# Altium footprint library Connector_FFC-FPC.PcbLib: 372 footprints (part 6 of 24)
Each footprint in its own frame and in the unit in brackets; x right, y up, seen from the top. Pads: shape width x height; smd on the part's side, far side on the other; paste and mask are expansions set on the pad; w line width, h text height; cw(c..) or ccw(c..) is an arc to the next point about the centre after c.
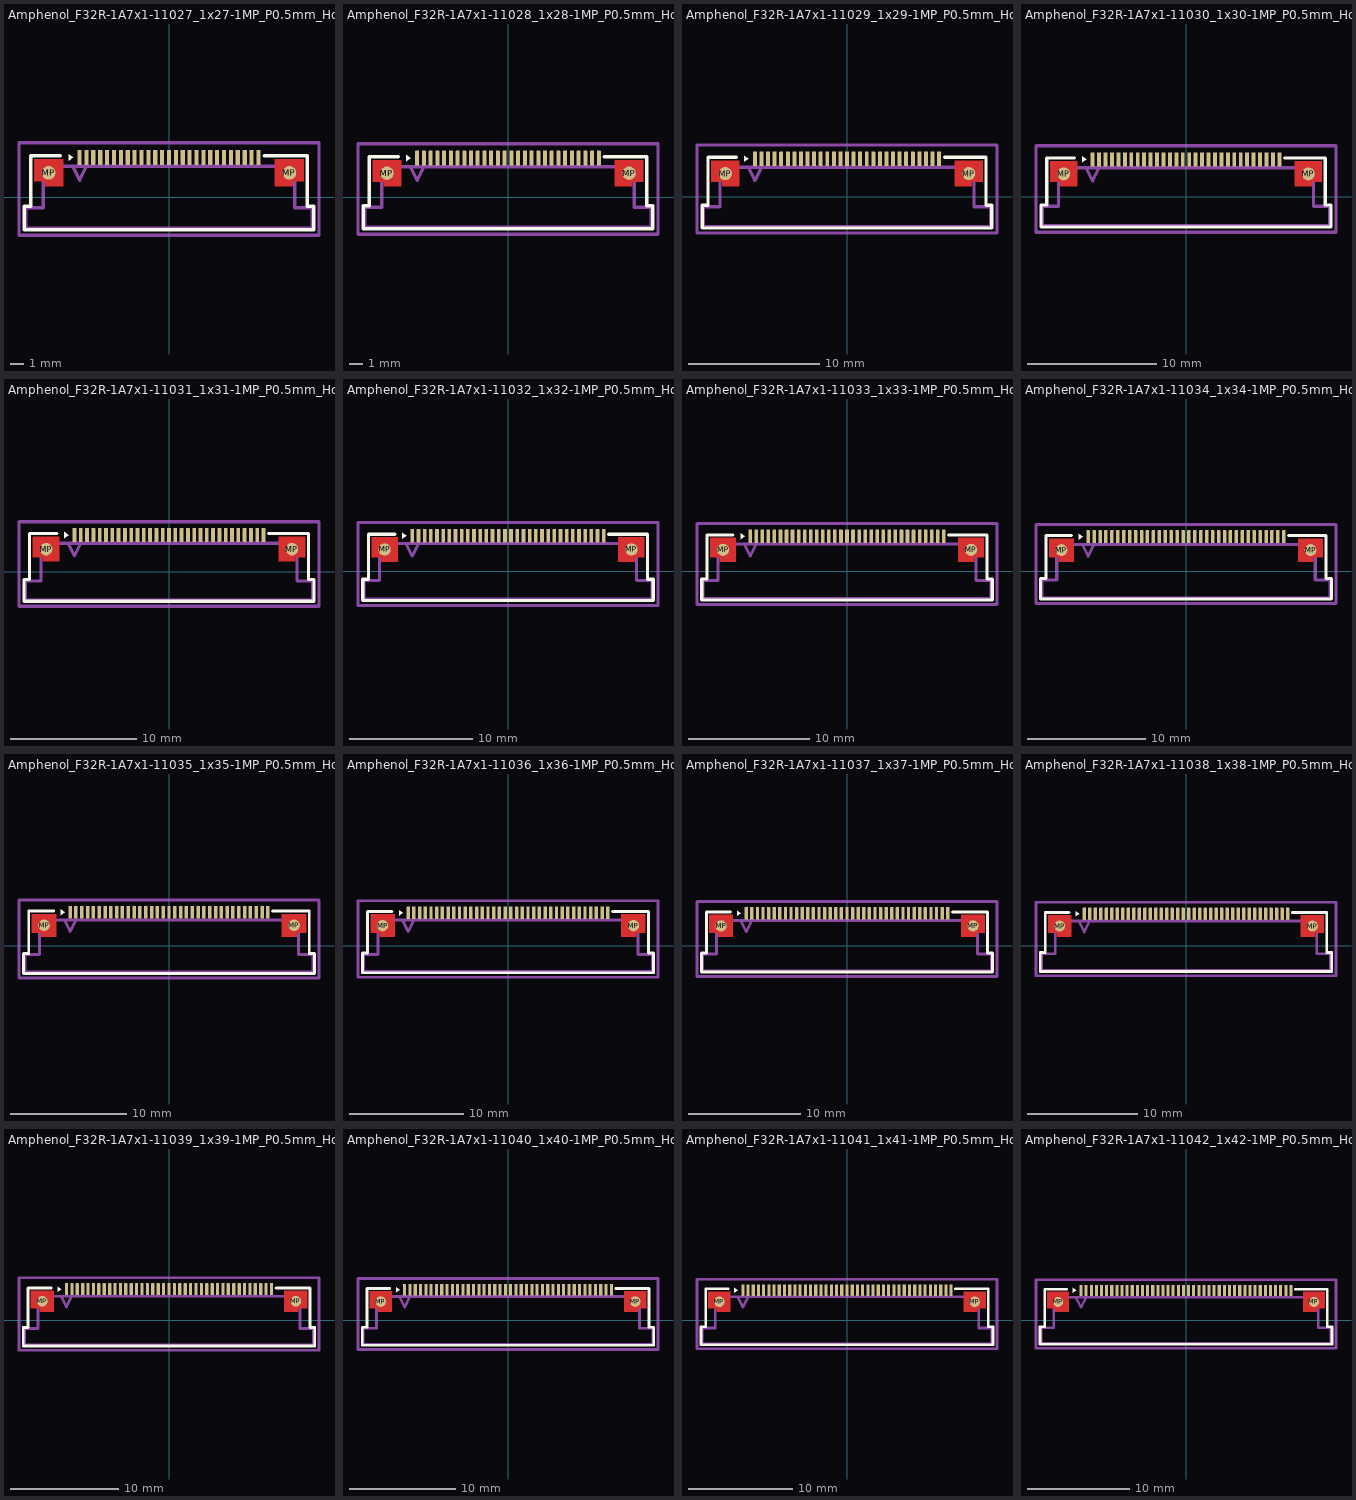
[diagram p5: the footprints below, top view; thin cyan lines are the x and y axes]

## Amphenol_F32R-1A7x1-11027_1x27-1MP_P0.5mm_Horizontal [mm]
pads (29):
  rrect25% 0.3x1.1 smd: 1(-6.5,2.9) 2(-6,2.9) 3(-5.5,2.9) 4(-5,2.9) 5(-4.5,2.9) 6(-4,2.9) 7(-3.5,2.9) 8(-3,2.9) 9(-2.5,2.9) 10(-2,2.9) 11(-1.5,2.9) 12(-1,2.9) 13(-0.5,2.9) 14(0,2.9) 15(0.5,2.9) 16(1,2.9) 17(1.5,2.9) 18(2,2.9) 19(2.5,2.9) 20(3,2.9) 21(3.5,2.9) 22(4,2.9) 23(4.5,2.9) 24(5,2.9) 25(5.5,2.9) 26(6,2.9) 27(6.5,2.9)
  round 1 smd: MP(-8.75,1.775) MP(8.75,1.775)
F.Cu:
  region: 9.8,1.15 9,1.15 9,0.8 7.7,0.8 7.7,2.75 9.8,2.75
  region: -7.7,0.8 -9,0.8 -9,1.15 -9.8,1.15 -9.8,2.75 -7.7,2.75
F.SilkS:
  region: -6.97,2.9 -7.3,2.66 -7.3,3.14
  lines w0.254: -7.91,3.01 -10.06,3.01 -10.06,-0.64 -10.51,-0.64 -10.51,-2.36 10.51,-2.36 10.51,-0.64 10.06,-0.64 10.06,3.01 6.91,3.01
F.Paste:
  region: 9.8,1.15 9,1.15 9,0.8 7.7,0.8 7.7,2.75 9.8,2.75
  region: -7.7,0.8 -9,0.8 -9,1.15 -9.8,1.15 -9.8,2.75 -7.7,2.75
F.Mask:
  region: 9.8,1.15 9,1.15 9,0.8 7.7,0.8 7.7,2.75 9.8,2.75
  region: -7.7,0.8 -9,0.8 -9,1.15 -9.8,1.15 -9.8,2.75 -7.7,2.75
Top Assembly:
  lines w0.254: -7,2.25 -6.5,1.25 -6,2.25 ; -10.4,-2.25 10.4,-2.25 10.4,-0.75 9.15,-0.75 9.15,2.25 -9.15,2.25 -9.15,-0.75 -10.4,-0.75 -10.4,-2.25
  text "'.Designator'" at -4.047,-0.84 h1
Top Courtyard:
  lines w0.254: -10.9,-2.75 10.9,-2.75 10.9,3.95 -10.9,3.95 -10.9,-2.75
Top Designator:
  text ".Designator" at -7.618,0.092 h1.52

## Amphenol_F32R-1A7x1-11028_1x28-1MP_P0.5mm_Horizontal [mm]
pads (30):
  rrect25% 0.3x1.1 smd: 1(-6.75,2.9) 2(-6.25,2.9) 3(-5.75,2.9) 4(-5.25,2.9) 5(-4.75,2.9) 6(-4.25,2.9) 7(-3.75,2.9) 8(-3.25,2.9) 9(-2.75,2.9) 10(-2.25,2.9) 11(-1.75,2.9) 12(-1.25,2.9) 13(-0.75,2.9) 14(-0.25,2.9) 15(0.25,2.9) 16(0.75,2.9) 17(1.25,2.9) 18(1.75,2.9) 19(2.25,2.9) 20(2.75,2.9) 21(3.25,2.9) 22(3.75,2.9) 23(4.25,2.9) 24(4.75,2.9) 25(5.25,2.9) 26(5.75,2.9) 27(6.25,2.9) 28(6.75,2.9)
  round 1 smd: MP(-9,1.775) MP(9,1.775)
F.Cu:
  region: 10.05,1.15 9.25,1.15 9.25,0.8 7.95,0.8 7.95,2.75 10.05,2.75
  region: -7.95,0.8 -9.25,0.8 -9.25,1.15 -10.05,1.15 -10.05,2.75 -7.95,2.75
F.SilkS:
  region: -7.22,2.9 -7.55,2.66 -7.55,3.14
  lines w0.254: -8.16,3.01 -10.31,3.01 -10.31,-0.64 -10.76,-0.64 -10.76,-2.36 10.76,-2.36 10.76,-0.64 10.31,-0.64 10.31,3.01 7.16,3.01
F.Paste:
  region: 10.05,1.15 9.25,1.15 9.25,0.8 7.95,0.8 7.95,2.75 10.05,2.75
  region: -7.95,0.8 -9.25,0.8 -9.25,1.15 -10.05,1.15 -10.05,2.75 -7.95,2.75
F.Mask:
  region: 10.05,1.15 9.25,1.15 9.25,0.8 7.95,0.8 7.95,2.75 10.05,2.75
  region: -7.95,0.8 -9.25,0.8 -9.25,1.15 -10.05,1.15 -10.05,2.75 -7.95,2.75
Top Assembly:
  lines w0.254: -7.25,2.25 -6.75,1.25 -6.25,2.25 ; -10.65,-2.25 10.65,-2.25 10.65,-0.75 9.4,-0.75 9.4,2.25 -9.4,2.25 -9.4,-0.75 -10.65,-0.75 -10.65,-2.25
  text "'.Designator'" at -4.047,-0.84 h1
Top Courtyard:
  lines w0.254: -11.15,-2.75 11.15,-2.75 11.15,3.95 -11.15,3.95 -11.15,-2.75
Top Designator:
  text ".Designator" at -7.618,0.092 h1.52

## Amphenol_F32R-1A7x1-11029_1x29-1MP_P0.5mm_Horizontal [mm]
pads (31):
  rrect25% 0.3x1.1 smd: 1(-7,2.9) 2(-6.5,2.9) 3(-6,2.9) 4(-5.5,2.9) 5(-5,2.9) 6(-4.5,2.9) 7(-4,2.9) 8(-3.5,2.9) 9(-3,2.9) 10(-2.5,2.9) 11(-2,2.9) 12(-1.5,2.9) 13(-1,2.9) 14(-0.5,2.9) 15(0,2.9) 16(0.5,2.9) 17(1,2.9) 18(1.5,2.9) 19(2,2.9) 20(2.5,2.9) 21(3,2.9) 22(3.5,2.9) 23(4,2.9) 24(4.5,2.9) 25(5,2.9) 26(5.5,2.9) 27(6,2.9) 28(6.5,2.9) 29(7,2.9)
  round 1 smd: MP(-9.25,1.775) MP(9.25,1.775)
F.Cu:
  region: 10.3,1.15 9.5,1.15 9.5,0.8 8.2,0.8 8.2,2.75 10.3,2.75
  region: -8.2,0.8 -9.5,0.8 -9.5,1.15 -10.3,1.15 -10.3,2.75 -8.2,2.75
F.SilkS:
  region: -7.47,2.9 -7.8,2.66 -7.8,3.14
  lines w0.254: -8.41,3.01 -10.56,3.01 -10.56,-0.64 -11.01,-0.64 -11.01,-2.36 11.01,-2.36 11.01,-0.64 10.56,-0.64 10.56,3.01 7.41,3.01
F.Paste:
  region: 10.3,1.15 9.5,1.15 9.5,0.8 8.2,0.8 8.2,2.75 10.3,2.75
  region: -8.2,0.8 -9.5,0.8 -9.5,1.15 -10.3,1.15 -10.3,2.75 -8.2,2.75
F.Mask:
  region: 10.3,1.15 9.5,1.15 9.5,0.8 8.2,0.8 8.2,2.75 10.3,2.75
  region: -8.2,0.8 -9.5,0.8 -9.5,1.15 -10.3,1.15 -10.3,2.75 -8.2,2.75
Top Assembly:
  lines w0.254: -7.5,2.25 -7,1.25 -6.5,2.25 ; -10.9,-2.25 10.9,-2.25 10.9,-0.75 9.65,-0.75 9.65,2.25 -9.65,2.25 -9.65,-0.75 -10.9,-0.75 -10.9,-2.25
  text "'.Designator'" at -4.047,-0.84 h1
Top Courtyard:
  lines w0.254: -11.4,-2.75 11.4,-2.75 11.4,3.95 -11.4,3.95 -11.4,-2.75
Top Designator:
  text ".Designator" at -7.618,0.092 h1.52

## Amphenol_F32R-1A7x1-11030_1x30-1MP_P0.5mm_Horizontal [mm]
pads (32):
  rrect25% 0.3x1.1 smd: 1(-7.25,2.9) 2(-6.75,2.9) 3(-6.25,2.9) 4(-5.75,2.9) 5(-5.25,2.9) 6(-4.75,2.9) 7(-4.25,2.9) 8(-3.75,2.9) 9(-3.25,2.9) 10(-2.75,2.9) 11(-2.25,2.9) 12(-1.75,2.9) 13(-1.25,2.9) 14(-0.75,2.9) 15(-0.25,2.9) 16(0.25,2.9) 17(0.75,2.9) 18(1.25,2.9) 19(1.75,2.9) 20(2.25,2.9) 21(2.75,2.9) 22(3.25,2.9) 23(3.75,2.9) 24(4.25,2.9) 25(4.75,2.9) 26(5.25,2.9) 27(5.75,2.9) 28(6.25,2.9) 29(6.75,2.9) 30(7.25,2.9)
  round 1 smd: MP(-9.5,1.775) MP(9.5,1.775)
F.Cu:
  region: 10.55,1.15 9.75,1.15 9.75,0.8 8.45,0.8 8.45,2.75 10.55,2.75
  region: -8.45,0.8 -9.75,0.8 -9.75,1.15 -10.55,1.15 -10.55,2.75 -8.45,2.75
F.SilkS:
  region: -7.72,2.9 -8.05,2.66 -8.05,3.14
  lines w0.254: -8.66,3.01 -10.81,3.01 -10.81,-0.64 -11.26,-0.64 -11.26,-2.36 11.26,-2.36 11.26,-0.64 10.81,-0.64 10.81,3.01 7.66,3.01
F.Paste:
  region: 10.55,1.15 9.75,1.15 9.75,0.8 8.45,0.8 8.45,2.75 10.55,2.75
  region: -8.45,0.8 -9.75,0.8 -9.75,1.15 -10.55,1.15 -10.55,2.75 -8.45,2.75
F.Mask:
  region: 10.55,1.15 9.75,1.15 9.75,0.8 8.45,0.8 8.45,2.75 10.55,2.75
  region: -8.45,0.8 -9.75,0.8 -9.75,1.15 -10.55,1.15 -10.55,2.75 -8.45,2.75
Top Assembly:
  lines w0.254: -7.75,2.25 -7.25,1.25 -6.75,2.25 ; -11.15,-2.25 11.15,-2.25 11.15,-0.75 9.9,-0.75 9.9,2.25 -9.9,2.25 -9.9,-0.75 -11.15,-0.75 -11.15,-2.25
  text "'.Designator'" at -4.047,-0.84 h1
Top Courtyard:
  lines w0.254: -11.65,-2.75 11.65,-2.75 11.65,3.95 -11.65,3.95 -11.65,-2.75
Top Designator:
  text ".Designator" at -7.618,0.092 h1.52

## Amphenol_F32R-1A7x1-11031_1x31-1MP_P0.5mm_Horizontal [mm]
pads (33):
  rrect25% 0.3x1.1 smd: 1(-7.5,2.9) 2(-7,2.9) 3(-6.5,2.9) 4(-6,2.9) 5(-5.5,2.9) 6(-5,2.9) 7(-4.5,2.9) 8(-4,2.9) 9(-3.5,2.9) 10(-3,2.9) 11(-2.5,2.9) 12(-2,2.9) 13(-1.5,2.9) 14(-1,2.9) 15(-0.5,2.9) 16(0,2.9) 17(0.5,2.9) 18(1,2.9) 19(1.5,2.9) 20(2,2.9) 21(2.5,2.9) 22(3,2.9) 23(3.5,2.9) 24(4,2.9) 25(4.5,2.9) 26(5,2.9) 27(5.5,2.9) 28(6,2.9) 29(6.5,2.9) 30(7,2.9) 31(7.5,2.9)
  round 1 smd: MP(-9.75,1.775) MP(9.75,1.775)
F.Cu:
  region: 10.8,1.15 10,1.15 10,0.8 8.7,0.8 8.7,2.75 10.8,2.75
  region: -8.7,0.8 -10,0.8 -10,1.15 -10.8,1.15 -10.8,2.75 -8.7,2.75
F.SilkS:
  region: -7.97,2.9 -8.3,2.66 -8.3,3.14
  lines w0.254: -8.91,3.01 -11.06,3.01 -11.06,-0.64 -11.51,-0.64 -11.51,-2.36 11.51,-2.36 11.51,-0.64 11.06,-0.64 11.06,3.01 7.91,3.01
F.Paste:
  region: 10.8,1.15 10,1.15 10,0.8 8.7,0.8 8.7,2.75 10.8,2.75
  region: -8.7,0.8 -10,0.8 -10,1.15 -10.8,1.15 -10.8,2.75 -8.7,2.75
F.Mask:
  region: 10.8,1.15 10,1.15 10,0.8 8.7,0.8 8.7,2.75 10.8,2.75
  region: -8.7,0.8 -10,0.8 -10,1.15 -10.8,1.15 -10.8,2.75 -8.7,2.75
Top Assembly:
  lines w0.254: -8,2.25 -7.5,1.25 -7,2.25 ; -11.4,-2.25 11.4,-2.25 11.4,-0.75 10.15,-0.75 10.15,2.25 -10.15,2.25 -10.15,-0.75 -11.4,-0.75 -11.4,-2.25
  text "'.Designator'" at -4.047,-0.84 h1
Top Courtyard:
  lines w0.254: -11.9,-2.75 11.9,-2.75 11.9,3.95 -11.9,3.95 -11.9,-2.75
Top Designator:
  text ".Designator" at -7.618,0.092 h1.52

## Amphenol_F32R-1A7x1-11032_1x32-1MP_P0.5mm_Horizontal [mm]
pads (34):
  rrect25% 0.3x1.1 smd: 1(-7.75,2.9) 2(-7.25,2.9) 3(-6.75,2.9) 4(-6.25,2.9) 5(-5.75,2.9) 6(-5.25,2.9) 7(-4.75,2.9) 8(-4.25,2.9) 9(-3.75,2.9) 10(-3.25,2.9) 11(-2.75,2.9) 12(-2.25,2.9) 13(-1.75,2.9) 14(-1.25,2.9) 15(-0.75,2.9) 16(-0.25,2.9) 17(0.25,2.9) 18(0.75,2.9) 19(1.25,2.9) 20(1.75,2.9) 21(2.25,2.9) 22(2.75,2.9) 23(3.25,2.9) 24(3.75,2.9) 25(4.25,2.9) 26(4.75,2.9) 27(5.25,2.9) 28(5.75,2.9) 29(6.25,2.9) 30(6.75,2.9) 31(7.25,2.9) 32(7.75,2.9)
  round 1 smd: MP(-10,1.775) MP(10,1.775)
F.Cu:
  region: 11.05,1.15 10.25,1.15 10.25,0.8 8.95,0.8 8.95,2.75 11.05,2.75
  region: -8.95,0.8 -10.25,0.8 -10.25,1.15 -11.05,1.15 -11.05,2.75 -8.95,2.75
F.SilkS:
  region: -8.22,2.9 -8.55,2.66 -8.55,3.14
  lines w0.254: -9.16,3.01 -11.31,3.01 -11.31,-0.64 -11.76,-0.64 -11.76,-2.36 11.76,-2.36 11.76,-0.64 11.31,-0.64 11.31,3.01 8.16,3.01
F.Paste:
  region: 11.05,1.15 10.25,1.15 10.25,0.8 8.95,0.8 8.95,2.75 11.05,2.75
  region: -8.95,0.8 -10.25,0.8 -10.25,1.15 -11.05,1.15 -11.05,2.75 -8.95,2.75
F.Mask:
  region: 11.05,1.15 10.25,1.15 10.25,0.8 8.95,0.8 8.95,2.75 11.05,2.75
  region: -8.95,0.8 -10.25,0.8 -10.25,1.15 -11.05,1.15 -11.05,2.75 -8.95,2.75
Top Assembly:
  lines w0.254: -8.25,2.25 -7.75,1.25 -7.25,2.25 ; -11.65,-2.25 11.65,-2.25 11.65,-0.75 10.4,-0.75 10.4,2.25 -10.4,2.25 -10.4,-0.75 -11.65,-0.75 -11.65,-2.25
  text "'.Designator'" at -4.047,-0.84 h1
Top Courtyard:
  lines w0.254: -12.15,-2.75 12.15,-2.75 12.15,3.95 -12.15,3.95 -12.15,-2.75
Top Designator:
  text ".Designator" at -7.618,0.092 h1.52

## Amphenol_F32R-1A7x1-11033_1x33-1MP_P0.5mm_Horizontal [mm]
pads (35):
  rrect25% 0.3x1.1 smd: 1(-8,2.9) 2(-7.5,2.9) 3(-7,2.9) 4(-6.5,2.9) 5(-6,2.9) 6(-5.5,2.9) 7(-5,2.9) 8(-4.5,2.9) 9(-4,2.9) 10(-3.5,2.9) 11(-3,2.9) 12(-2.5,2.9) 13(-2,2.9) 14(-1.5,2.9) 15(-1,2.9) 16(-0.5,2.9) 17(0,2.9) 18(0.5,2.9) 19(1,2.9) 20(1.5,2.9) 21(2,2.9) 22(2.5,2.9) 23(3,2.9) 24(3.5,2.9) 25(4,2.9) 26(4.5,2.9) 27(5,2.9) 28(5.5,2.9) 29(6,2.9) 30(6.5,2.9) 31(7,2.9) 32(7.5,2.9) 33(8,2.9)
  round 1 smd: MP(-10.25,1.775) MP(10.25,1.775)
F.Cu:
  region: 11.3,1.15 10.5,1.15 10.5,0.8 9.2,0.8 9.2,2.75 11.3,2.75
  region: -9.2,0.8 -10.5,0.8 -10.5,1.15 -11.3,1.15 -11.3,2.75 -9.2,2.75
F.SilkS:
  region: -8.47,2.9 -8.8,2.66 -8.8,3.14
  lines w0.254: -9.41,3.01 -11.56,3.01 -11.56,-0.64 -12.01,-0.64 -12.01,-2.36 12.01,-2.36 12.01,-0.64 11.56,-0.64 11.56,3.01 8.41,3.01
F.Paste:
  region: 11.3,1.15 10.5,1.15 10.5,0.8 9.2,0.8 9.2,2.75 11.3,2.75
  region: -9.2,0.8 -10.5,0.8 -10.5,1.15 -11.3,1.15 -11.3,2.75 -9.2,2.75
F.Mask:
  region: 11.3,1.15 10.5,1.15 10.5,0.8 9.2,0.8 9.2,2.75 11.3,2.75
  region: -9.2,0.8 -10.5,0.8 -10.5,1.15 -11.3,1.15 -11.3,2.75 -9.2,2.75
Top Assembly:
  lines w0.254: -8.5,2.25 -8,1.25 -7.5,2.25 ; -11.9,-2.25 11.9,-2.25 11.9,-0.75 10.65,-0.75 10.65,2.25 -10.65,2.25 -10.65,-0.75 -11.9,-0.75 -11.9,-2.25
  text "'.Designator'" at -4.047,-0.84 h1
Top Courtyard:
  lines w0.254: -12.4,-2.75 12.4,-2.75 12.4,3.95 -12.4,3.95 -12.4,-2.75
Top Designator:
  text ".Designator" at -7.618,0.092 h1.52

## Amphenol_F32R-1A7x1-11034_1x34-1MP_P0.5mm_Horizontal [mm]
pads (36):
  rrect25% 0.3x1.1 smd: 1(-8.25,2.9) 2(-7.75,2.9) 3(-7.25,2.9) 4(-6.75,2.9) 5(-6.25,2.9) 6(-5.75,2.9) 7(-5.25,2.9) 8(-4.75,2.9) 9(-4.25,2.9) 10(-3.75,2.9) 11(-3.25,2.9) 12(-2.75,2.9) 13(-2.25,2.9) 14(-1.75,2.9) 15(-1.25,2.9) 16(-0.75,2.9) 17(-0.25,2.9) 18(0.25,2.9) 19(0.75,2.9) 20(1.25,2.9) 21(1.75,2.9) 22(2.25,2.9) 23(2.75,2.9) 24(3.25,2.9) 25(3.75,2.9) 26(4.25,2.9) 27(4.75,2.9) 28(5.25,2.9) 29(5.75,2.9) 30(6.25,2.9) 31(6.75,2.9) 32(7.25,2.9) 33(7.75,2.9) 34(8.25,2.9)
  round 1 smd: MP(-10.5,1.775) MP(10.5,1.775)
F.Cu:
  region: 11.55,1.15 10.75,1.15 10.75,0.8 9.45,0.8 9.45,2.75 11.55,2.75
  region: -9.45,0.8 -10.75,0.8 -10.75,1.15 -11.55,1.15 -11.55,2.75 -9.45,2.75
F.SilkS:
  region: -8.72,2.9 -9.05,2.66 -9.05,3.14
  lines w0.254: -9.66,3.01 -11.81,3.01 -11.81,-0.64 -12.26,-0.64 -12.26,-2.36 12.26,-2.36 12.26,-0.64 11.81,-0.64 11.81,3.01 8.66,3.01
F.Paste:
  region: 11.55,1.15 10.75,1.15 10.75,0.8 9.45,0.8 9.45,2.75 11.55,2.75
  region: -9.45,0.8 -10.75,0.8 -10.75,1.15 -11.55,1.15 -11.55,2.75 -9.45,2.75
F.Mask:
  region: 11.55,1.15 10.75,1.15 10.75,0.8 9.45,0.8 9.45,2.75 11.55,2.75
  region: -9.45,0.8 -10.75,0.8 -10.75,1.15 -11.55,1.15 -11.55,2.75 -9.45,2.75
Top Assembly:
  lines w0.254: -8.75,2.25 -8.25,1.25 -7.75,2.25 ; -12.15,-2.25 12.15,-2.25 12.15,-0.75 10.9,-0.75 10.9,2.25 -10.9,2.25 -10.9,-0.75 -12.15,-0.75 -12.15,-2.25
  text "'.Designator'" at -4.047,-0.84 h1
Top Courtyard:
  lines w0.254: -12.65,-2.75 12.65,-2.75 12.65,3.95 -12.65,3.95 -12.65,-2.75
Top Designator:
  text ".Designator" at -7.618,0.092 h1.52

## Amphenol_F32R-1A7x1-11035_1x35-1MP_P0.5mm_Horizontal [mm]
pads (37):
  rrect25% 0.3x1.1 smd: 1(-8.5,2.9) 2(-8,2.9) 3(-7.5,2.9) 4(-7,2.9) 5(-6.5,2.9) 6(-6,2.9) 7(-5.5,2.9) 8(-5,2.9) 9(-4.5,2.9) 10(-4,2.9) 11(-3.5,2.9) 12(-3,2.9) 13(-2.5,2.9) 14(-2,2.9) 15(-1.5,2.9) 16(-1,2.9) 17(-0.5,2.9) 18(0,2.9) 19(0.5,2.9) 20(1,2.9) 21(1.5,2.9) 22(2,2.9) 23(2.5,2.9) 24(3,2.9) 25(3.5,2.9) 26(4,2.9) 27(4.5,2.9) 28(5,2.9) 29(5.5,2.9) 30(6,2.9) 31(6.5,2.9) 32(7,2.9) 33(7.5,2.9) 34(8,2.9) 35(8.5,2.9)
  round 1 smd: MP(-10.75,1.775) MP(10.75,1.775)
F.Cu:
  region: 11.8,1.15 11,1.15 11,0.8 9.7,0.8 9.7,2.75 11.8,2.75
  region: -9.7,0.8 -11,0.8 -11,1.15 -11.8,1.15 -11.8,2.75 -9.7,2.75
F.SilkS:
  region: -8.97,2.9 -9.3,2.66 -9.3,3.14
  lines w0.254: -9.91,3.01 -12.06,3.01 -12.06,-0.64 -12.51,-0.64 -12.51,-2.36 12.51,-2.36 12.51,-0.64 12.06,-0.64 12.06,3.01 8.91,3.01
F.Paste:
  region: 11.8,1.15 11,1.15 11,0.8 9.7,0.8 9.7,2.75 11.8,2.75
  region: -9.7,0.8 -11,0.8 -11,1.15 -11.8,1.15 -11.8,2.75 -9.7,2.75
F.Mask:
  region: 11.8,1.15 11,1.15 11,0.8 9.7,0.8 9.7,2.75 11.8,2.75
  region: -9.7,0.8 -11,0.8 -11,1.15 -11.8,1.15 -11.8,2.75 -9.7,2.75
Top Assembly:
  lines w0.254: -9,2.25 -8.5,1.25 -8,2.25 ; -12.4,-2.25 12.4,-2.25 12.4,-0.75 11.15,-0.75 11.15,2.25 -11.15,2.25 -11.15,-0.75 -12.4,-0.75 -12.4,-2.25
  text "'.Designator'" at -4.047,-0.84 h1
Top Courtyard:
  lines w0.254: -12.9,-2.75 12.9,-2.75 12.9,3.95 -12.9,3.95 -12.9,-2.75
Top Designator:
  text ".Designator" at -7.618,0.092 h1.52

## Amphenol_F32R-1A7x1-11036_1x36-1MP_P0.5mm_Horizontal [mm]
pads (38):
  rrect25% 0.3x1.1 smd: 1(-8.75,2.9) 2(-8.25,2.9) 3(-7.75,2.9) 4(-7.25,2.9) 5(-6.75,2.9) 6(-6.25,2.9) 7(-5.75,2.9) 8(-5.25,2.9) 9(-4.75,2.9) 10(-4.25,2.9) 11(-3.75,2.9) 12(-3.25,2.9) 13(-2.75,2.9) 14(-2.25,2.9) 15(-1.75,2.9) 16(-1.25,2.9) 17(-0.75,2.9) 18(-0.25,2.9) 19(0.25,2.9) 20(0.75,2.9) 21(1.25,2.9) 22(1.75,2.9) 23(2.25,2.9) 24(2.75,2.9) 25(3.25,2.9) 26(3.75,2.9) 27(4.25,2.9) 28(4.75,2.9) 29(5.25,2.9) 30(5.75,2.9) 31(6.25,2.9) 32(6.75,2.9) 33(7.25,2.9) 34(7.75,2.9) 35(8.25,2.9) 36(8.75,2.9)
  round 1 smd: MP(-11,1.775) MP(11,1.775)
F.Cu:
  region: 12.05,1.15 11.25,1.15 11.25,0.8 9.95,0.8 9.95,2.75 12.05,2.75
  region: -9.95,0.8 -11.25,0.8 -11.25,1.15 -12.05,1.15 -12.05,2.75 -9.95,2.75
F.SilkS:
  region: -9.22,2.9 -9.55,2.66 -9.55,3.14
  lines w0.254: -10.16,3.01 -12.31,3.01 -12.31,-0.64 -12.76,-0.64 -12.76,-2.36 12.76,-2.36 12.76,-0.64 12.31,-0.64 12.31,3.01 9.16,3.01
F.Paste:
  region: 12.05,1.15 11.25,1.15 11.25,0.8 9.95,0.8 9.95,2.75 12.05,2.75
  region: -9.95,0.8 -11.25,0.8 -11.25,1.15 -12.05,1.15 -12.05,2.75 -9.95,2.75
F.Mask:
  region: 12.05,1.15 11.25,1.15 11.25,0.8 9.95,0.8 9.95,2.75 12.05,2.75
  region: -9.95,0.8 -11.25,0.8 -11.25,1.15 -12.05,1.15 -12.05,2.75 -9.95,2.75
Top Assembly:
  lines w0.254: -9.25,2.25 -8.75,1.25 -8.25,2.25 ; -12.65,-2.25 12.65,-2.25 12.65,-0.75 11.4,-0.75 11.4,2.25 -11.4,2.25 -11.4,-0.75 -12.65,-0.75 -12.65,-2.25
  text "'.Designator'" at -4.047,-0.84 h1
Top Courtyard:
  lines w0.254: -13.15,-2.75 13.15,-2.75 13.15,3.95 -13.15,3.95 -13.15,-2.75
Top Designator:
  text ".Designator" at -7.618,0.092 h1.52

## Amphenol_F32R-1A7x1-11037_1x37-1MP_P0.5mm_Horizontal [mm]
pads (39):
  rrect25% 0.3x1.1 smd: 1(-9,2.9) 2(-8.5,2.9) 3(-8,2.9) 4(-7.5,2.9) 5(-7,2.9) 6(-6.5,2.9) 7(-6,2.9) 8(-5.5,2.9) 9(-5,2.9) 10(-4.5,2.9) 11(-4,2.9) 12(-3.5,2.9) 13(-3,2.9) 14(-2.5,2.9) 15(-2,2.9) 16(-1.5,2.9) 17(-1,2.9) 18(-0.5,2.9) 19(0,2.9) 20(0.5,2.9) 21(1,2.9) 22(1.5,2.9) 23(2,2.9) 24(2.5,2.9) 25(3,2.9) 26(3.5,2.9) 27(4,2.9) 28(4.5,2.9) 29(5,2.9) 30(5.5,2.9) 31(6,2.9) 32(6.5,2.9) 33(7,2.9) 34(7.5,2.9) 35(8,2.9) 36(8.5,2.9) 37(9,2.9)
  round 1 smd: MP(-11.25,1.775) MP(11.25,1.775)
F.Cu:
  region: 12.3,1.15 11.5,1.15 11.5,0.8 10.2,0.8 10.2,2.75 12.3,2.75
  region: -10.2,0.8 -11.5,0.8 -11.5,1.15 -12.3,1.15 -12.3,2.75 -10.2,2.75
F.SilkS:
  region: -9.47,2.9 -9.8,2.66 -9.8,3.14
  lines w0.254: -10.41,3.01 -12.56,3.01 -12.56,-0.64 -13.01,-0.64 -13.01,-2.36 13.01,-2.36 13.01,-0.64 12.56,-0.64 12.56,3.01 9.41,3.01
F.Paste:
  region: 12.3,1.15 11.5,1.15 11.5,0.8 10.2,0.8 10.2,2.75 12.3,2.75
  region: -10.2,0.8 -11.5,0.8 -11.5,1.15 -12.3,1.15 -12.3,2.75 -10.2,2.75
F.Mask:
  region: 12.3,1.15 11.5,1.15 11.5,0.8 10.2,0.8 10.2,2.75 12.3,2.75
  region: -10.2,0.8 -11.5,0.8 -11.5,1.15 -12.3,1.15 -12.3,2.75 -10.2,2.75
Top Assembly:
  lines w0.254: -9.5,2.25 -9,1.25 -8.5,2.25 ; -12.9,-2.25 12.9,-2.25 12.9,-0.75 11.65,-0.75 11.65,2.25 -11.65,2.25 -11.65,-0.75 -12.9,-0.75 -12.9,-2.25
  text "'.Designator'" at -4.047,-0.84 h1
Top Courtyard:
  lines w0.254: -13.4,-2.75 13.4,-2.75 13.4,3.95 -13.4,3.95 -13.4,-2.75
Top Designator:
  text ".Designator" at -7.618,0.092 h1.52

## Amphenol_F32R-1A7x1-11038_1x38-1MP_P0.5mm_Horizontal [mm]
pads (40):
  rrect25% 0.3x1.1 smd: 1(-9.25,2.9) 2(-8.75,2.9) 3(-8.25,2.9) 4(-7.75,2.9) 5(-7.25,2.9) 6(-6.75,2.9) 7(-6.25,2.9) 8(-5.75,2.9) 9(-5.25,2.9) 10(-4.75,2.9) 11(-4.25,2.9) 12(-3.75,2.9) 13(-3.25,2.9) 14(-2.75,2.9) 15(-2.25,2.9) 16(-1.75,2.9) 17(-1.25,2.9) 18(-0.75,2.9) 19(-0.25,2.9) 20(0.25,2.9) 21(0.75,2.9) 22(1.25,2.9) 23(1.75,2.9) 24(2.25,2.9) 25(2.75,2.9) 26(3.25,2.9) 27(3.75,2.9) 28(4.25,2.9) 29(4.75,2.9) 30(5.25,2.9) 31(5.75,2.9) 32(6.25,2.9) 33(6.75,2.9) 34(7.25,2.9) 35(7.75,2.9) 36(8.25,2.9) 37(8.75,2.9) 38(9.25,2.9)
  round 1 smd: MP(-11.5,1.775) MP(11.5,1.775)
F.Cu:
  region: 12.55,1.15 11.75,1.15 11.75,0.8 10.45,0.8 10.45,2.75 12.55,2.75
  region: -10.45,0.8 -11.75,0.8 -11.75,1.15 -12.55,1.15 -12.55,2.75 -10.45,2.75
F.SilkS:
  region: -9.72,2.9 -10.05,2.66 -10.05,3.14
  lines w0.254: -10.66,3.01 -12.81,3.01 -12.81,-0.64 -13.26,-0.64 -13.26,-2.36 13.26,-2.36 13.26,-0.64 12.81,-0.64 12.81,3.01 9.66,3.01
F.Paste:
  region: 12.55,1.15 11.75,1.15 11.75,0.8 10.45,0.8 10.45,2.75 12.55,2.75
  region: -10.45,0.8 -11.75,0.8 -11.75,1.15 -12.55,1.15 -12.55,2.75 -10.45,2.75
F.Mask:
  region: 12.55,1.15 11.75,1.15 11.75,0.8 10.45,0.8 10.45,2.75 12.55,2.75
  region: -10.45,0.8 -11.75,0.8 -11.75,1.15 -12.55,1.15 -12.55,2.75 -10.45,2.75
Top Assembly:
  lines w0.254: -9.75,2.25 -9.25,1.25 -8.75,2.25 ; -13.15,-2.25 13.15,-2.25 13.15,-0.75 11.9,-0.75 11.9,2.25 -11.9,2.25 -11.9,-0.75 -13.15,-0.75 -13.15,-2.25
  text "'.Designator'" at -4.047,-0.84 h1
Top Courtyard:
  lines w0.254: -13.65,-2.75 13.65,-2.75 13.65,3.95 -13.65,3.95 -13.65,-2.75
Top Designator:
  text ".Designator" at -7.618,0.092 h1.52

## Amphenol_F32R-1A7x1-11039_1x39-1MP_P0.5mm_Horizontal [mm]
pads (41):
  rrect25% 0.3x1.1 smd: 1(-9.5,2.9) 2(-9,2.9) 3(-8.5,2.9) 4(-8,2.9) 5(-7.5,2.9) 6(-7,2.9) 7(-6.5,2.9) 8(-6,2.9) 9(-5.5,2.9) 10(-5,2.9) 11(-4.5,2.9) 12(-4,2.9) 13(-3.5,2.9) 14(-3,2.9) 15(-2.5,2.9) 16(-2,2.9) 17(-1.5,2.9) 18(-1,2.9) 19(-0.5,2.9) 20(0,2.9) 21(0.5,2.9) 22(1,2.9) 23(1.5,2.9) 24(2,2.9) 25(2.5,2.9) 26(3,2.9) 27(3.5,2.9) 28(4,2.9) 29(4.5,2.9) 30(5,2.9) 31(5.5,2.9) 32(6,2.9) 33(6.5,2.9) 34(7,2.9) 35(7.5,2.9) 36(8,2.9) 37(8.5,2.9) 38(9,2.9) 39(9.5,2.9)
  round 1 smd: MP(-11.75,1.775) MP(11.75,1.775)
F.Cu:
  region: 12.8,1.15 12,1.15 12,0.8 10.7,0.8 10.7,2.75 12.8,2.75
  region: -10.7,0.8 -12,0.8 -12,1.15 -12.8,1.15 -12.8,2.75 -10.7,2.75
F.SilkS:
  region: -9.97,2.9 -10.3,2.66 -10.3,3.14
  lines w0.254: -10.91,3.01 -13.06,3.01 -13.06,-0.64 -13.51,-0.64 -13.51,-2.36 13.51,-2.36 13.51,-0.64 13.06,-0.64 13.06,3.01 9.91,3.01
F.Paste:
  region: 12.8,1.15 12,1.15 12,0.8 10.7,0.8 10.7,2.75 12.8,2.75
  region: -10.7,0.8 -12,0.8 -12,1.15 -12.8,1.15 -12.8,2.75 -10.7,2.75
F.Mask:
  region: 12.8,1.15 12,1.15 12,0.8 10.7,0.8 10.7,2.75 12.8,2.75
  region: -10.7,0.8 -12,0.8 -12,1.15 -12.8,1.15 -12.8,2.75 -10.7,2.75
Top Assembly:
  lines w0.254: -10,2.25 -9.5,1.25 -9,2.25 ; -13.4,-2.25 13.4,-2.25 13.4,-0.75 12.15,-0.75 12.15,2.25 -12.15,2.25 -12.15,-0.75 -13.4,-0.75 -13.4,-2.25
  text "'.Designator'" at -4.047,-0.84 h1
Top Courtyard:
  lines w0.254: -13.9,-2.75 13.9,-2.75 13.9,3.95 -13.9,3.95 -13.9,-2.75
Top Designator:
  text ".Designator" at -7.618,0.092 h1.52

## Amphenol_F32R-1A7x1-11040_1x40-1MP_P0.5mm_Horizontal [mm]
pads (42):
  rrect25% 0.3x1.1 smd: 1(-9.75,2.9) 2(-9.25,2.9) 3(-8.75,2.9) 4(-8.25,2.9) 5(-7.75,2.9) 6(-7.25,2.9) 7(-6.75,2.9) 8(-6.25,2.9) 9(-5.75,2.9) 10(-5.25,2.9) 11(-4.75,2.9) 12(-4.25,2.9) 13(-3.75,2.9) 14(-3.25,2.9) 15(-2.75,2.9) 16(-2.25,2.9) 17(-1.75,2.9) 18(-1.25,2.9) 19(-0.75,2.9) 20(-0.25,2.9) 21(0.25,2.9) 22(0.75,2.9) 23(1.25,2.9) 24(1.75,2.9) 25(2.25,2.9) 26(2.75,2.9) 27(3.25,2.9) 28(3.75,2.9) 29(4.25,2.9) 30(4.75,2.9) 31(5.25,2.9) 32(5.75,2.9) 33(6.25,2.9) 34(6.75,2.9) 35(7.25,2.9) 36(7.75,2.9) 37(8.25,2.9) 38(8.75,2.9) 39(9.25,2.9) 40(9.75,2.9)
  round 1 smd: MP(-12,1.775) MP(12,1.775)
F.Cu:
  region: 13.05,1.15 12.25,1.15 12.25,0.8 10.95,0.8 10.95,2.75 13.05,2.75
  region: -10.95,0.8 -12.25,0.8 -12.25,1.15 -13.05,1.15 -13.05,2.75 -10.95,2.75
F.SilkS:
  region: -10.22,2.9 -10.55,2.66 -10.55,3.14
  lines w0.254: -11.16,3.01 -13.31,3.01 -13.31,-0.64 -13.76,-0.64 -13.76,-2.36 13.76,-2.36 13.76,-0.64 13.31,-0.64 13.31,3.01 10.16,3.01
F.Paste:
  region: 13.05,1.15 12.25,1.15 12.25,0.8 10.95,0.8 10.95,2.75 13.05,2.75
  region: -10.95,0.8 -12.25,0.8 -12.25,1.15 -13.05,1.15 -13.05,2.75 -10.95,2.75
F.Mask:
  region: 13.05,1.15 12.25,1.15 12.25,0.8 10.95,0.8 10.95,2.75 13.05,2.75
  region: -10.95,0.8 -12.25,0.8 -12.25,1.15 -13.05,1.15 -13.05,2.75 -10.95,2.75
Top Assembly:
  lines w0.254: -10.25,2.25 -9.75,1.25 -9.25,2.25 ; -13.65,-2.25 13.65,-2.25 13.65,-0.75 12.4,-0.75 12.4,2.25 -12.4,2.25 -12.4,-0.75 -13.65,-0.75 -13.65,-2.25
  text "'.Designator'" at -4.047,-0.84 h1
Top Courtyard:
  lines w0.254: -14.15,-2.75 14.15,-2.75 14.15,3.95 -14.15,3.95 -14.15,-2.75
Top Designator:
  text ".Designator" at -7.618,0.092 h1.52

## Amphenol_F32R-1A7x1-11041_1x41-1MP_P0.5mm_Horizontal [mm]
pads (43):
  rrect25% 0.3x1.1 smd: 1(-10,2.9) 2(-9.5,2.9) 3(-9,2.9) 4(-8.5,2.9) 5(-8,2.9) 6(-7.5,2.9) 7(-7,2.9) 8(-6.5,2.9) 9(-6,2.9) 10(-5.5,2.9) 11(-5,2.9) 12(-4.5,2.9) 13(-4,2.9) 14(-3.5,2.9) 15(-3,2.9) 16(-2.5,2.9) 17(-2,2.9) 18(-1.5,2.9) 19(-1,2.9) 20(-0.5,2.9) 21(0,2.9) 22(0.5,2.9) 23(1,2.9) 24(1.5,2.9) 25(2,2.9) 26(2.5,2.9) 27(3,2.9) 28(3.5,2.9) 29(4,2.9) 30(4.5,2.9) 31(5,2.9) 32(5.5,2.9) 33(6,2.9) 34(6.5,2.9) 35(7,2.9) 36(7.5,2.9) 37(8,2.9) 38(8.5,2.9) 39(9,2.9) 40(9.5,2.9) 41(10,2.9)
  round 1 smd: MP(-12.25,1.775) MP(12.25,1.775)
F.Cu:
  region: 13.3,1.15 12.5,1.15 12.5,0.8 11.2,0.8 11.2,2.75 13.3,2.75
  region: -11.2,0.8 -12.5,0.8 -12.5,1.15 -13.3,1.15 -13.3,2.75 -11.2,2.75
F.SilkS:
  region: -10.47,2.9 -10.8,2.66 -10.8,3.14
  lines w0.254: -11.41,3.01 -13.56,3.01 -13.56,-0.64 -14.01,-0.64 -14.01,-2.36 14.01,-2.36 14.01,-0.64 13.56,-0.64 13.56,3.01 10.41,3.01
F.Paste:
  region: 13.3,1.15 12.5,1.15 12.5,0.8 11.2,0.8 11.2,2.75 13.3,2.75
  region: -11.2,0.8 -12.5,0.8 -12.5,1.15 -13.3,1.15 -13.3,2.75 -11.2,2.75
F.Mask:
  region: 13.3,1.15 12.5,1.15 12.5,0.8 11.2,0.8 11.2,2.75 13.3,2.75
  region: -11.2,0.8 -12.5,0.8 -12.5,1.15 -13.3,1.15 -13.3,2.75 -11.2,2.75
Top Assembly:
  lines w0.254: -10.5,2.25 -10,1.25 -9.5,2.25 ; -13.9,-2.25 13.9,-2.25 13.9,-0.75 12.65,-0.75 12.65,2.25 -12.65,2.25 -12.65,-0.75 -13.9,-0.75 -13.9,-2.25
  text "'.Designator'" at -4.047,-0.84 h1
Top Courtyard:
  lines w0.254: -14.4,-2.75 14.4,-2.75 14.4,3.95 -14.4,3.95 -14.4,-2.75
Top Designator:
  text ".Designator" at -7.618,0.092 h1.52

## Amphenol_F32R-1A7x1-11042_1x42-1MP_P0.5mm_Horizontal [mm]
pads (44):
  rrect25% 0.3x1.1 smd: 1(-10.25,2.9) 2(-9.75,2.9) 3(-9.25,2.9) 4(-8.75,2.9) 5(-8.25,2.9) 6(-7.75,2.9) 7(-7.25,2.9) 8(-6.75,2.9) 9(-6.25,2.9) 10(-5.75,2.9) 11(-5.25,2.9) 12(-4.75,2.9) 13(-4.25,2.9) 14(-3.75,2.9) 15(-3.25,2.9) 16(-2.75,2.9) 17(-2.25,2.9) 18(-1.75,2.9) 19(-1.25,2.9) 20(-0.75,2.9) 21(-0.25,2.9) 22(0.25,2.9) 23(0.75,2.9) 24(1.25,2.9) 25(1.75,2.9) 26(2.25,2.9) 27(2.75,2.9) 28(3.25,2.9) 29(3.75,2.9) 30(4.25,2.9) 31(4.75,2.9) 32(5.25,2.9) 33(5.75,2.9) 34(6.25,2.9) 35(6.75,2.9) 36(7.25,2.9) 37(7.75,2.9) 38(8.25,2.9) 39(8.75,2.9) 40(9.25,2.9) 41(9.75,2.9) 42(10.25,2.9)
  round 1 smd: MP(-12.5,1.775) MP(12.5,1.775)
F.Cu:
  region: 13.55,1.15 12.75,1.15 12.75,0.8 11.45,0.8 11.45,2.75 13.55,2.75
  region: -11.45,0.8 -12.75,0.8 -12.75,1.15 -13.55,1.15 -13.55,2.75 -11.45,2.75
F.SilkS:
  region: -10.72,2.9 -11.05,2.66 -11.05,3.14
  lines w0.254: -11.66,3.01 -13.81,3.01 -13.81,-0.64 -14.26,-0.64 -14.26,-2.36 14.26,-2.36 14.26,-0.64 13.81,-0.64 13.81,3.01 10.66,3.01
F.Paste:
  region: 13.55,1.15 12.75,1.15 12.75,0.8 11.45,0.8 11.45,2.75 13.55,2.75
  region: -11.45,0.8 -12.75,0.8 -12.75,1.15 -13.55,1.15 -13.55,2.75 -11.45,2.75
F.Mask:
  region: 13.55,1.15 12.75,1.15 12.75,0.8 11.45,0.8 11.45,2.75 13.55,2.75
  region: -11.45,0.8 -12.75,0.8 -12.75,1.15 -13.55,1.15 -13.55,2.75 -11.45,2.75
Top Assembly:
  lines w0.254: -10.75,2.25 -10.25,1.25 -9.75,2.25 ; -14.15,-2.25 14.15,-2.25 14.15,-0.75 12.9,-0.75 12.9,2.25 -12.9,2.25 -12.9,-0.75 -14.15,-0.75 -14.15,-2.25
  text "'.Designator'" at -4.047,-0.84 h1
Top Courtyard:
  lines w0.254: -14.65,-2.75 14.65,-2.75 14.65,3.95 -14.65,3.95 -14.65,-2.75
Top Designator:
  text ".Designator" at -7.618,0.092 h1.52